# Altium schematic symbol library SIM800C 原理图库.SchLib: 16 symbols
Pins are listed as number, name and electrical type; pins without a type are passive.

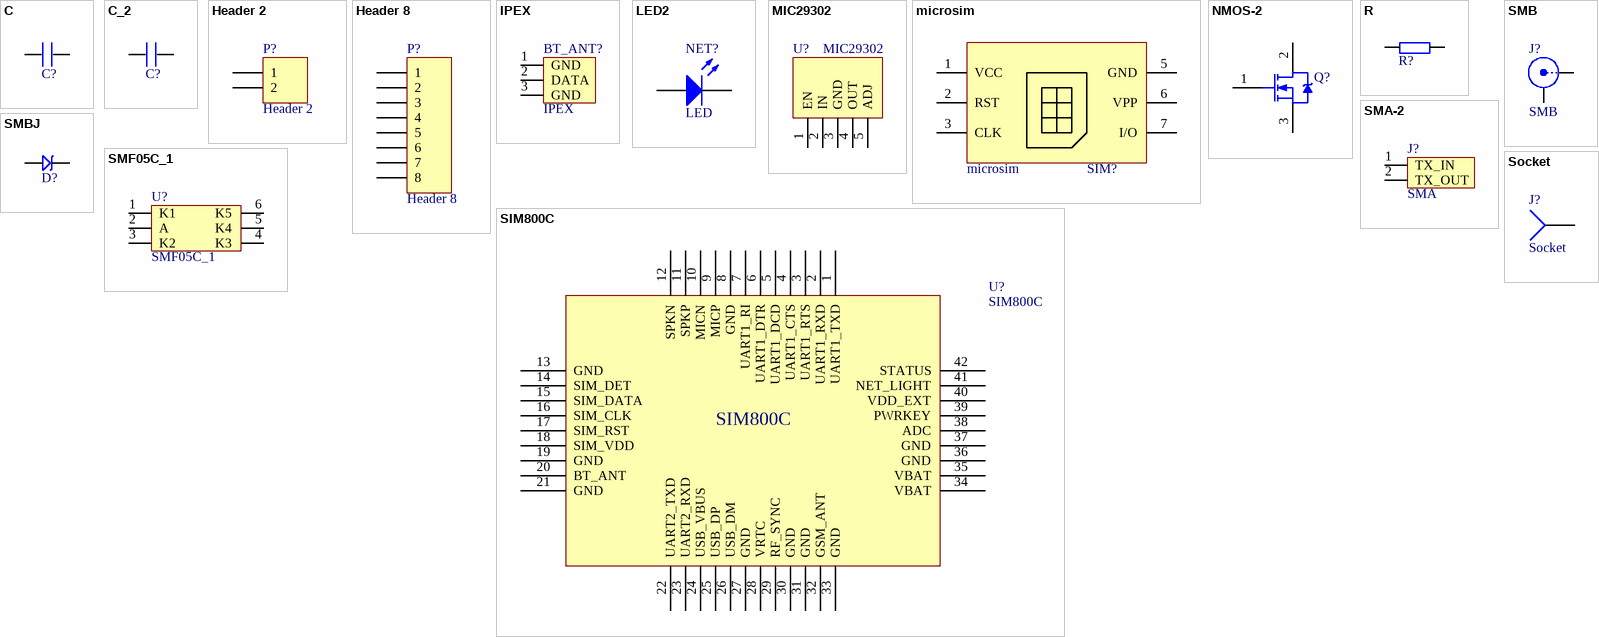
[diagram p0: symbols C to Socket]

## C
designator C?, comment 22UF  (value not drawn)
footprint 0603P
pins: 1, 2

## C_2
designator C?, comment 104  (value not drawn)
footprint 0603P
footprint 0603P
footprint CC5.08 (CAP0.1)
footprint CC4.572 (222/332)
footprint 1206
footprint 1210
footprint CC6.096
footprint CC7.62
pins: 1, 2

## Header 2
designator P?
Header, 2-Pin; LatestRevisionDate: 17-Jul-2002; LatestRevisionNote: Re-released for DXP Platform.; Publisher: Altium Limited
footprint XH2.54
signal-integrity model Connector
pins: 1, 2

## Header 8
designator P?
Header, 8-Pin; LatestRevisionDate: 17-Jul-2002; LatestRevisionNote: Re-released for DXP Platform.; Publisher: Altium Limited
footprint HDR1X8 (Connector; Header; 8 Position)
signal-integrity model Connector
pins: 1, 2, 3, 4, 5, 6, 7, 8

## IPEX
designator BT_ANT?
IPEX座
footprint IPEX
pins: 1 GND, 2 DATA, 3 GND

## LED2
designator NET?, comment LED
Typical RED, GREEN, YELLOW, AMBER GaAs LED; Published: 8-Jun-2000; LatestRevisionDate: 17-Jul-2002; LatestRevisionNote: Re-released for DXP Platform.; PackageDocument: Feb-2002; PackageReference: 3.2X1.6X1.1; Publisher: Altium Limited
footprint SMDLED
simulation model LED2 (Diode)
pins: 1 A, 2 K

## MIC29302
designator U?
footprint MIC29302
pins: 1 EN, 2 IN, 3 GND, 4 OUT, 5 ADJ

## microsim
designator SIM?
footprint MICRO_SIM
pins: 1 VCC, 2 RST, 3 CLK, 5 GND, 6 VPP, 7 I/O

## NMOS-2
designator Q?  (value not drawn)
N-Channel Power MOSFET; Note: Pin 2 is electrically connected to pin 4.; Published: 8-Jun-2000; LatestRevisionDate: 17-Jul-2002; LatestRevisionNote: Re-released for DXP Platform.; DatasheetDocument: PD-9.814; PackageReference: TO-220AB; Publisher: Altium Limited; Code_JEDEC: TO-220-AB; ComponentLink1Description: Manufacturer Link; ComponentLink1URL: http://www.irf.com/
footprint SOT-23 (SOT-23; 3 Leads; Body 3.0 x 2.6 mm, inc. leads (LxW max))
simulation model IRF1010 (Spice Subcircuit)
pins: 1 G, 2 D, 3 S

## R
designator R?, comment 47K  (value not drawn)
footprint 0603P
footprint 0603P
footprint RL (10o/0.7uH)
footprint R16.0 (RX/1W)
footprint 1206
footprint 1210
footprint R20.0 (RX/2W)
footprint R10.16 (STD)
footprint RLN9 (13.5mm*5.1mm)
pins: 1, 2

## SIM800C
designator U?
footprint GSM_800C
pins: 1 UART1_TXD, 2 UART1_RXD, 3 UART1_RTS, 4 UART1_CTS, 5 UART1_DCD, 6 UART1_DTR, 7 UART1_RI, 8 GND, 9 MICP, 10 MICN, 11 SPKP, 12 SPKN, 13 GND, 14 SIM_DET, 15 SIM_DATA, 16 SIM_CLK, 17 SIM_RST, 18 SIM_VDD, 19 GND, 20 BT_ANT, 21 GND, 22 UART2_TXD, 23 UART2_RXD, 24 USB_VBUS, 25 USB_DP, 26 USB_DM, 27 GND, 28 VRTC, 29 RF_SYNC, 30 GND, 31 GND, 32 GSM_ANT, 33 GND, 34 VBAT, 35 VBAT, 36 GND, 37 GND, 38 ADC, 39 PWRKEY, 40 VDD_EXT, 41 NET_LIGHT, 42 STATUS

## SMA-2
designator J?, comment SMA
SMA-2
footprint AN9520-245G
pins: 1 TX_IN, 2 TX_OUT

## SMB
designator J?
SMB Straight Connector; LatestRevisionDate: 17-Jul-2002; LatestRevisionNote: Re-released for DXP Platform.; Publisher: Altium Limited
footprint SMB_V-RJ45 (Connector; SMB Straight)
signal-integrity model Connector
pins: 1 X, 2 Y

## SMBJ
designator D?, comment SMBJ5.0A  (value not drawn)
TVS
footprint SMBJ
pins: 1, 2

## SMF05C_1
designator U?
TVS
footprint SOT-363
pins: 1 K1, 2 A, 3 K2, 4 K3, 5 K4, 6 K5
2 alternate drawings of the same symbol

## Socket
designator J?
LatestRevisionDate: 17-Jul-2002; LatestRevisionNote: Re-released for DXP Platform.; Publisher: Altium Limited
footprint PIN1 (Connector; Socket)
signal-integrity model Connector
pins: 1